# EAGLE library part 74LVX4245 (library Custom)
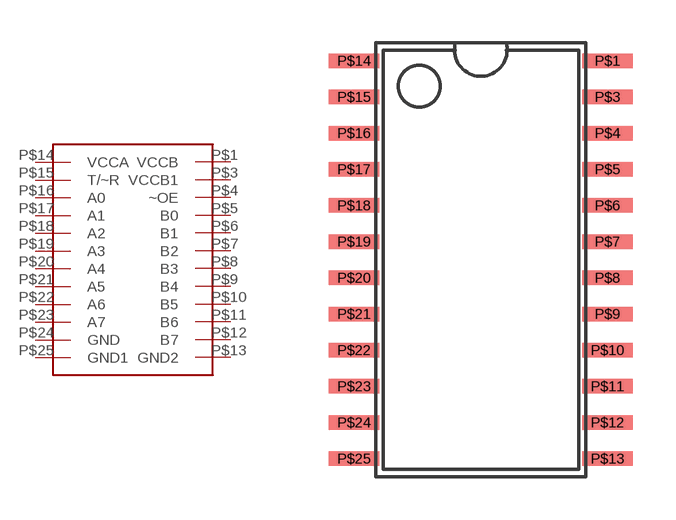
[diagram p9: symbol with the pads of 74LVX4245; footprint 74LVX4245]

Designator prefix 74LVX4245

## 74LVX4245  [74LVX4245]
P$1  VCCB
P$3  VCCB1
P$4  ~OE
P$5  B0
P$6  B1
P$7  B2
P$8  B3
P$9  B4
P$10  B5
P$11  B6
P$12  B7
P$13  GND2
P$14  VCCA
P$15  T/~R
P$16  A0
P$17  A1
P$18  A2
P$19  A3
P$20  A4
P$21  A5
P$22  A6
P$23  A7
P$24  GND
P$25  GND1

## Footprint 74LVX4245 (pad centres in mm)
smd 1.778 x 0.508: P$1 4.318,6.985; P$3 4.318,5.715; P$4 4.318,4.445; P$5 4.318,3.175; P$6 4.318,1.905; P$7 4.318,0.635; P$8 4.318,-0.635; P$9 4.318,-1.905; P$10 4.318,-3.175; P$11 4.318,-4.445; P$12 4.318,-5.715; P$13 4.318,-6.985; P$14 -4.572,6.985; P$15 -4.572,5.715; P$16 -4.572,4.445; P$17 -4.572,3.175; P$18 -4.572,1.905; P$19 -4.572,0.635; P$20 -4.572,-0.635; P$21 -4.572,-1.905; P$22 -4.572,-3.175; P$23 -4.572,-4.445; P$24 -4.572,-5.715; P$25 -4.572,-6.985